# Altium schematic symbol library Schlib1.SchLib: 1 symbol
Pins are listed as number, name and electrical type; pins without a type are passive.

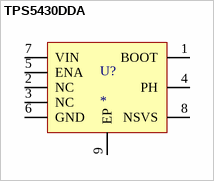
[diagram p0: symbol TPS5430DDA]

## TPS5430DDA
designator U?
pins: 1 BOOT, 2 NC, 3 NC, 4 PH, 5 ENA, 6 GND, 7 VIN, 8 NSVS, 9 EP